# Altium schematic symbol library SamlibSCH.SchLib: 216 symbols (part 1 of 5)
Pins are listed as number, name and electrical type; pins without a type are passive.

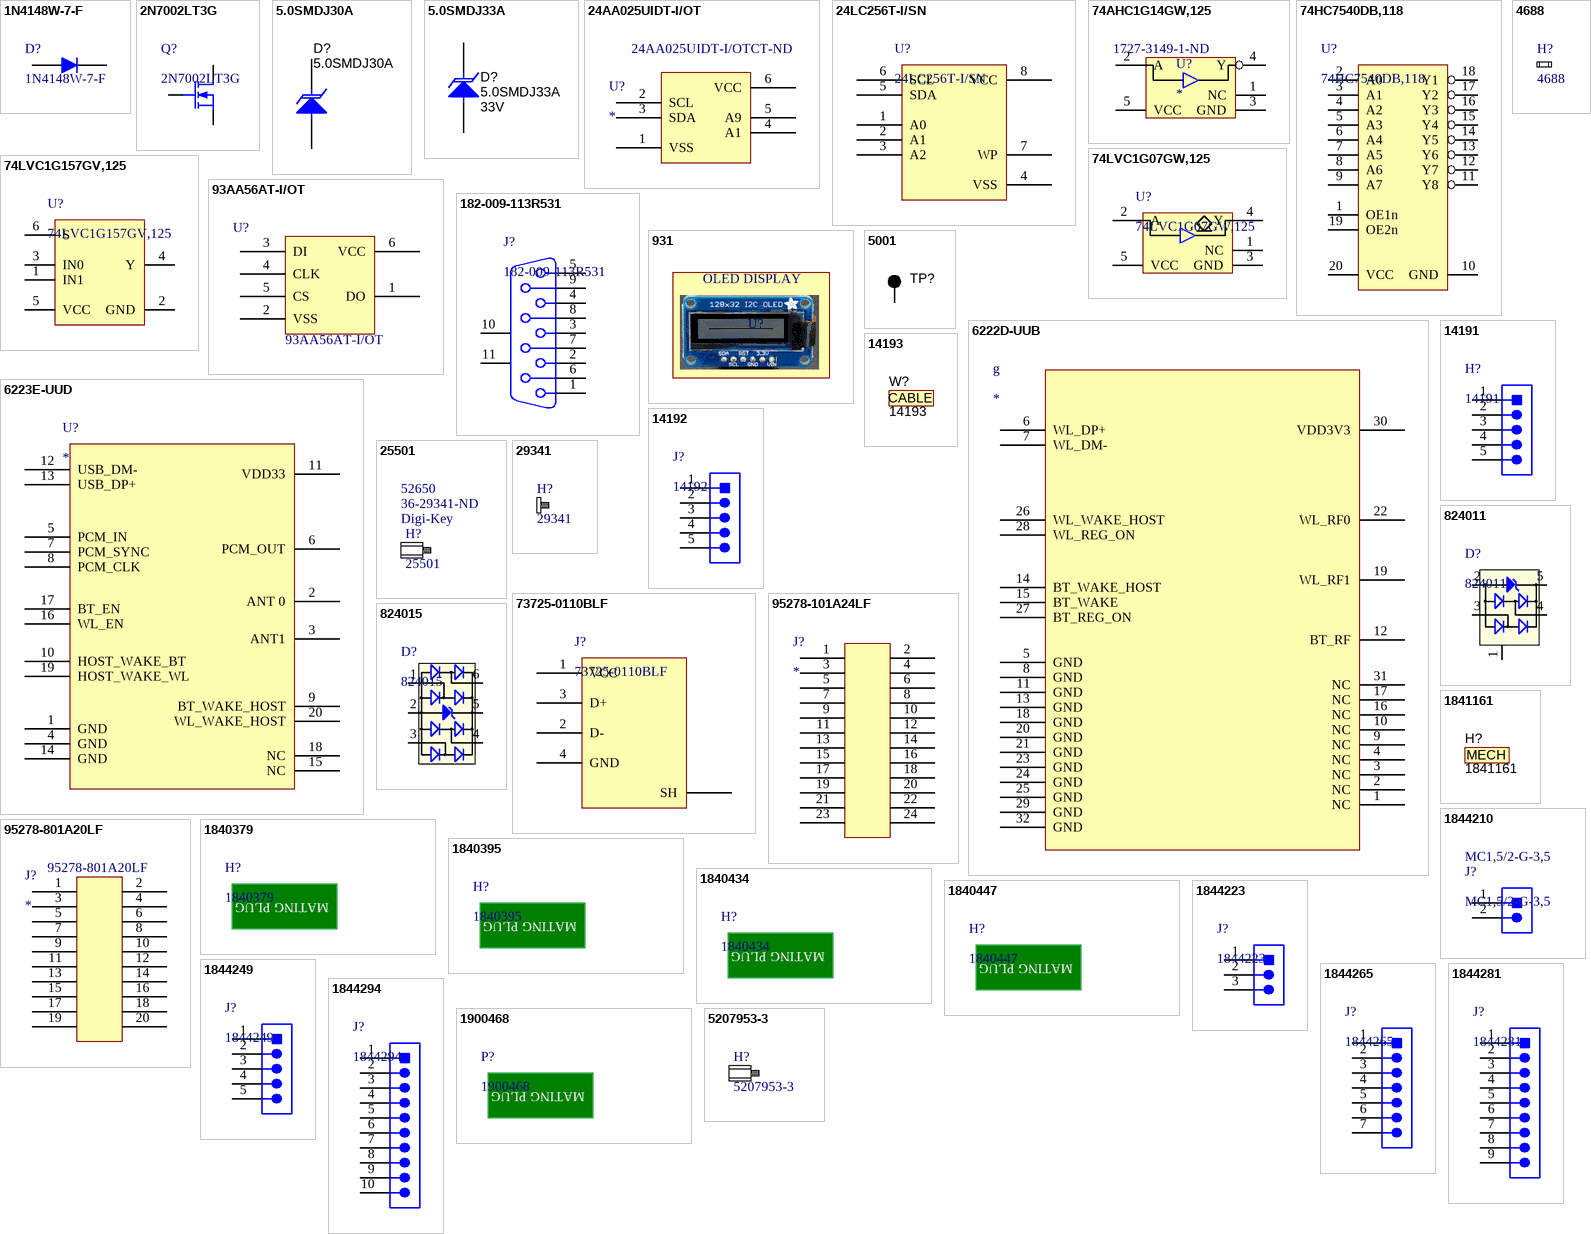
[diagram p0: symbols 1N4148W-7-F to 5207953-3]

## 1N4148W-7-F
designator D?
DIODE GEN PURP 100V 300MA SOD123; Manufacturer: Diodes Incorporated; Diode Type: Standard; Current - Average Rectified (Io): 300mA (DC); Voltage - Forward (Vf) (Max) @ If: 1.25V @ 150mA; Speed: Small Signal =< 200mA (Io), Any Speed; Reverse Recovery Time (trr): 4ns; Current - Reverse Leakage @ Vr: 1µA @ 75V; Capacitance @ Vr, F: 2pF @ 0V, 1MHz; Packaging: Cut Tape (CT); Voltage - DC Reverse (Vr) (Max): 100V; Mounting Type: Surface Mount; Package / Case: SOD-123; Supplier Device Package: SOD-123; Operating Temperature - Junction: -65°C ~ 150°C; ComponentLink1URL: http://www.diodes.com/_files/datasheets/ds30086.pdf; ComponentLink1Description: http://www.diodes.com/_files/datasheets/ds30086.pdf; Supplier 1: Digi-Key; Supplier Part Number 1: 1N4148W-FDICT-ND; Manufacturer Part Number: 1N4148W-7-F; RoHS: RoHS Compliant; Category: Discrete Semiconductor Products; Stock 1: 814473; Pricing: 1=0.16, 10=0.149, 100=0.0811, 500=0.04984, 1000=0.03399 (USD)
footprint SOD-123 (SOD-123, 2-Leads, Body 1.60x3.75mm, IPC Low Density)
pins: 1, 2

## 2N7002LT3G
designator Q?
MOSFET N-CH 60V 0.115A SOT-23; Manufacturer: ON Semiconductor; FET Type: MOSFET N-Channel, Metal Oxide; FET Feature: Standard; Current - Continuous Drain (Id) @ 25°C: 115mA (Tc); Rds On (Max) @ Id, Vgs: 7.5 Ohm @ 500mA, 10V; Vgs(th) (Max) @ Id: 2.5V @ 250µA; Input Capacitance (Ciss) @ Vds: 50pF @ 25V; Power - Max: 225mW; Configuration: Single; Forward Transconductance - Min: 0.00008 S; Transistor Polarity: N-Channel; Channel Mode: Enhancement; Id - Continuous Drain Current: 115 mA; Pd - Power Dissipation: 300 mW; Rds On - Drain-Source Resistance: 7.5 Ohms; Typical Turn-Off Delay Time: 40 ns; Typical Turn-On Delay Time: 20 ns; Vgs - Gate-Source Breakdown Voltage: 20 V; Supplier 1: Digi-Key; Manufacturer Part Number: 2N7002LT3G; RoHS: RoHS Compliant; Category: Discrete Semiconductor Products; Stock 1: 14958; Pricing 1: 1=0.14, 10=0.13, 100=0.0708, 500=0.04348, 1000=0.02966 (USD); Packaging: Cut Tape (CT); Drain to Source Voltage (Vdss): 60V; Gate Charge (Qg) @ Vgs: -; Mounting Type: Surface Mount; Package / Case: TO-236-3, SC-59, SOT-23-3; Supplier Device Package: SOT-23-3 (TO-236); ComponentLink1URL: http://www.onsemi.com/pub_link/Collateral/2N7002L-D.PDF; ComponentLink1Description: http://www.onsemi.com/pub_link/Collateral/2N7002L-D.PDF; Supplier 2: Mouser; Stock 2: 406939; Pricing 2: 1=0.224, 10=0.198, 100=0.069, 1000=0.048, 3000=0.035, 24000=0.027, 45000=0.024, 99000=0.021 (AUD); Series: 2N7002L; Brand: ON Semiconductor; Mounting Style: SMD/SMT; Maximum Operating Temperature: + 150 C; Minimum Operating Temperature: - 55 C; Product Category: MOSFETs- Power and Small Signal; Standard Pack Qty: 3000; Vds - Drain-Source Breakdown Voltage: 60 V; RoHS - Mouser: Y; Minimum Order Quantity: 1; Reeling: True; ComponentLink2URL: http://www.mouser.com/ds/2/308/2N7002L-D-105484.pdf; ComponentLink2Description: http://www.mouser.com/ds/2/308/2N7002L-D-105484.pdf; Supplier Part Number 1: 2N7002LT3GOSCT-ND; Supplier Part Number 2: 863-2N7002LT1G
footprint SOT23-3N (SOT23, 3-Leads, Body 2.9x1.3mm, Pitch 0.95mm, Lead Span 2.5mm, IPC Medium Density)
pins: 1 G, 2 S, 3 D

## 5.0SMDJ30A
designator D?
TVS DIODE 30VWM 48.4VC SMC; Manufacturer: Littelfuse Inc.; Type: Zener; Unidirectional Channels: 1; Voltage - Reverse Standoff (Typ): 30V; Voltage - Breakdown (Min): 33.3V; Voltage - Clamping (Max) @ Ipp: 48.4V; Current - Peak Pulse (10/1000µs): 103A; Power - Peak Pulse: 5000W (5kW); Power Line Protection: No; Packaging: Cut Tape (CT); Bidirectional Channels: -; Applications: General Purpose; Capacitance @ Frequency: -; Operating Temperature: -55°C ~ 150°C (TJ); Mounting Type: Surface Mount; Package / Case: DO-214AB, SMC; Supplier Device Package: DO-214AB (SMCJ); ComponentLink1URL: http://www.littelfuse.com/products/tvs-diodes/surface-mount/~/media/electronics/datasheets/tvs_diodes/littelfuse_tvs_diode_5_0smdj_datasheet.pdf.pdf; ComponentLink1Description: http://www.littelfuse.com/products/tvs-diodes/surface-mount/~/media/electronics/datasheets/tvs_diodes/littelfuse_tvs_diode_5_0smdj_datasheet.pdf.pdf; Supplier 1: Digi-Key; Supplier Part Number 1: F5635CT-ND; Manufacturer Part Number: 5.0SMDJ30A; RoHS: RoHS Compliant; Category: Circuit Protection; Stock: 15839; Pricing: 1=1.72, 10=1.549, 25=1.388, 100=1.2482, 250=1.10828, 500=0.9684, 1000=0.80162 (USD)
footprint SMC
pins: 1 K, 2 A

## 5.0SMDJ33A
designator D?  value 33V
TVS DIODE 33VWM 53.3VC SMD; Manufacturer: Littelfuse; U/M: EA; Power_W: 6.5; Vr_V: 33; Value1: 6.5W; RJA_CperW: 75; CompType: TVS; SymbolVersion: 2012-01-13; PartNumber: 5.0SMDJ33A; PackageReference: SMC; Vz_V: N/A; MountType: SMT; RoHS: Y; ComponentLink1Description: Datasheet link; ComponentLink1URL: http://www.littelfuse.com/data/en/Data_Sheets/Littelfuse_TVS-Diodes_5.0SMDJ.pdf; Published: 2008-10-08; Publisher: Texas Instruments; LatestRevisionDate: 2015-03-27; LatestRevisionNote: Updated Supplier Data; Supplier 1: Digi-Key; Supplier Part Number 1: F4119CT-ND; Supplier 2: Mouser; Supplier Part Number 2: 576-5.0SMDJ33A; Supplier 3: Farnell; Supplier Part Number 3: 1848908
footprint SMC
pins: 1 K, 2 A

## 24AA025UIDT-I/OT
designator U?  Supplier Part Number 1: 24AA025UIDT-I/OTCT-ND
IC EEPROM 2K I2C 400KHZ SOT23-6; Manufacturer: Microchip; Manufacturer Part Number: 24AA025UIDT-I/OT; Density: 2Kb; Interface: I2C,Serial,2-Wire; Access Time: 900ns; Max Supply Voltage: 5.5V; Number of Words: 256; Min Supply Voltage: 1.7V; Nominal Supply Current: 3mA; Supplier 1: Digi-Key; Stock 1: 16199; Pricing 1: 1=0.24000, 25=0.23360 (USD); RoHS: Yes; Case/Package: SOT-23; Number of Pins: 6; Contact Plating: Tin,Matte; Min Operating Temperature: -40°C; Max Operating Temperature: 85°C; Package Quantity: 3000; Frequency: 400kHz; Packaging: Tape and Reel; Memory Type: EEPROM; Memory Size: 2Kb; Max Frequency: 400kHz; Length: 3.1mm; Height: 1.3mm; Width: 1.8mm; Radiation Hardening: No; REACH SVHC: No SVHC; Lead Free: Lead Free; ComponentLink1URL: https://datasheet.ciiva.com/18618/20005202a-18618066.pdf?src-supplier=Digi-Key; ComponentLink1Description: https://datasheet.ciiva.com/18618/20005202a-18618066.pdf?src-supplier=Digi-Key; ComponentLink2URL: https://datasheet.ciiva.com/26889/getdatasheetpartid-762985-26889550.pdf?src-supplier=Verical; ComponentLink2Description: https://datasheet.ciiva.com/26889/getdatasheetpartid-762985-26889550.pdf?src-supplier=Verical; ComponentLink3URL: https://datasheet.ciiva.com/30478/0900766b8127fad0-30478080.pdf?src-supplier=RSComponents; ComponentLink3Description: https://datasheet.ciiva.com/30478/0900766b8127fad0-30478080.pdf?src-supplier=RSComponents; ComponentLink4URL: https://datasheet.ciiva.com/29614/filehandler-aspxddocname-en561510-29614490.pdf?src-supplier=Digi-Key; ComponentLink4Description: https://datasheet.ciiva.com/29614/filehandler-aspxddocname-en561510-29614490.pdf?src-supplier=Digi-Key; ComponentLink5URL: https://datasheet.ciiva.com/30017/20005202a-30017786.pdf?src-supplier=Avnet; ComponentLink5Description: https://datasheet.ciiva.com/30017/20005202a-30017786.pdf?src-supplier=Avnet; ComponentLink6URL: https://datasheet.ciiva.com/24021/21210n-24021899.pdf?src-supplier=Mouser; ComponentLink6Description: https://datasheet.ciiva.com/24021/21210n-24021899.pdf?src-supplier=Mouser; ComponentLink7URL: https://datasheet.ciiva.com/39123/13720005202a-39123374.pdf?src-supplier=Onlinecomponents.com; ComponentLink7Description: https://datasheet.ciiva.com/39123/13720005202a-39123374.pdf?src-supplier=Onlinecomponents.com; ComponentLink8URL: https://datasheet.ciiva.com/18709/24aa025uid-eng-tds-18709641.pdf?src-supplier=Distrelec; ComponentLink8Description: https://datasheet.ciiva.com/18709/24aa025uid-eng-tds-18709641.pdf?src-supplier=Distrelec; ComponentLink9URL: https://datasheet.ciiva.com/22692/1725196-22692203.pdf?src-supplier=Element14; ComponentLink9Description: https://datasheet.ciiva.com/22692/1725196-22692203.pdf?src-supplier=Element14
footprint SOT95P280X116-6L (SOT23, 6-Leads, Body 2.90x2.80mm, Pitch 0.95mm, IPC High Density)
pins: 1 VSS, 2 SCL, 3 SDA, 4 A1, 5 A9, 6 VCC

## 24LC256T-I/SN
designator U?
IC EEPROM 256KBIT 400KHZ 8SOIC; Manufacturer: Microchip Technology; Format - Memory: EEPROMs - Serial; Memory Size: 256K (32K x 8); Interface: I²C, 2-Wire Serial; Voltage - Supply: 2.5 V ~ 5.5 V; Packaging: Cut Tape (CT); Memory Type: EEPROM; Speed: 400kHz; Operating Temperature: -40°C ~ 85°C; Package / Case: 8-SOIC (0.154", 3.90mm Width); Supplier Device Package: 8-SOIC N; ComponentLink1URL: http://www.microchip.com/mymicrochip/filehandler.aspx?ddocname=en011849; ComponentLink1Description: http://www.microchip.com/mymicrochip/filehandler.aspx?ddocname=en011849; Supplier 1: Digi-Key; Supplier Part Number 1: 24LC256T-I/SNCT-ND; Manufacturer Part Number: 24LC256T-I/SN; RoHS: RoHS Compliant; Category: Integrated Circuits (ICs); Stock: 6354; Pricing: 1=0.76, 25=0.73, 100=0.7125 (USD)
footprint SOIC127P600X175-8N (SOIC, 8-Leads, Body 4.9x3.9mm (max), Pitch 1.27mm, IPC Medium Density)
pins: 1 A0, 2 A1, 3 A2, 4 VSS, 5 SDA, 6 SCL, 7 WP, 8 VCC

## 74AHC1G14GW,125
designator U?  Supplier Part Number: 1727-3149-1-ND
IC INVERTER SCHMITT 1CH 5TSSOP; Manufacturer: Nexperia; Manufacturer Part Number: 74AHC1G14GW,125; Supplier: Digi-Key; Stock 1: 11033; Pricing 1: 1=0.23000, 10=0.18700, 25=0.15680, 100=0.09930, 250=0.07664, 500=0.06532, 1000=0.04442 (USD); RoHS: No; ComponentLink1URL: http://www.farnell.com/datasheets/2014360.pdf?src-supplier=Farnell; ComponentLink1Description: http://www.farnell.com/datasheets/2014360.pdf?src-supplier=Farnell
footprint SOT353-1 (NXP SEMI) (SOT353-1, 5-Leads, Body 2.05x2.13mm, Pitch 0.65mm, IPC High Density)
pins: 1 NC, 2 A, 3 GND, 4 Y, 5 VCC

## 74HC7540DB,118
designator U?
IC SCHMT TRIG BUFF/DVR 8B 20SSOP; Manufacturer: NXP Semiconductors; Logic Type: Buffer/Line Driver, Inverting; Number of Elements: 1; Number of Bits per Element: 8; Current - Output High, Low: 7.8mA, 7.8mA; Voltage - Supply: 2 V ~ 6 V; Packaging: Cut Tape (CT); Operating Temperature: -40°C ~ 125°C; Mounting Type: Surface Mount; Package / Case: 20-SSOP (0.209", 5.30mm Width); Supplier Device Package: 20-SSOP; ComponentLink1URL: http://www.nxp.com/documents/data_sheet/74HC_HCT7540.pdf; ComponentLink1Description: http://www.nxp.com/documents/data_sheet/74HC_HCT7540.pdf; Supplier 1: Digi-Key; Supplier Part Number 1: 568-12178-1-ND; Manufacturer Part Number: 74HC7540DB,118; RoHS: RoHS Compliant; Category: Integrated Circuits (ICs); Stock: 4000; Pricing: 1=1.52, 10=1.357, 100=1.0577, 500=0.87474 (USD)
footprint SOP65P780X200-20L (SOP, 20-Leads, Body 7.20x5.30mm, Pitch 0.65mm, IPC High Density)
pins: 1 OE1n, 2 A0, 3 A1, 4 A2, 5 A3, 6 A4, 7 A5, 8 A6, 9 A7, 10 GND (power), 11 Y8, 12 Y7, 13 Y6, 14 Y5, 15 Y4, 16 Y3, 17 Y2, 18 Y1, 19 OE2n, 20 VCC (power)

## 74LVC1G07GW,125
designator U?
IC BUFF OPEN DRAIN N-INV 5TSSOP; Manufacturer: NXP Semiconductors; Logic Type: Buffer, Non-Inverting; Number of Elements: 1; Current - Output High, Low: -, 32mA; Voltage - Supply: 1.65 V ~ 5.5 V; Packaging: Cut Tape (CT); Number of Bits per Element: 1; Input Type: -; Output Type: Open Drain; Operating Temperature: -40°C ~ 125°C (TA); Mounting Type: Surface Mount; Package / Case: 5-TSSOP, SC-70-5, SOT-353; Supplier Device Package: 5-TSSOP; ComponentLink1URL: http://www.nxp.com/documents/data_sheet/74LVC1G07.pdf; ComponentLink1Description: http://www.nxp.com/documents/data_sheet/74LVC1G07.pdf; Supplier 1: Digi-Key; Supplier Part Number 1: 568-2295-1-ND; Manufacturer Part Number: 74LVC1G07GW,125; RoHS: RoHS Compliant; Category: Integrated Circuits (ICs); Stock 1: 24392; Pricing: 1=0.25, 10=0.205, 100=0.1086, 500=0.07142, 1000=0.04866 (USD)
footprint SOT353-1 (NXP SEMI) (SOT353-1, 5-Leads, Body 2.05x2.13mm, Pitch 0.65mm, IPC High Density)
pins: 1 NC, 2 A, 3 GND, 4 Y, 5 VCC

## 74LVC1G157GV,125
designator U?
IC MULTIPLEXER 2INPUT 6TSOP; Manufacturer: NXP Semiconductors; Circuit: 1 x 2:1; Independent Circuits: 1; Current - Output High, Low: 32mA, 32mA; Voltage Supply Source: Single Supply; Voltage - Supply: 1.65 V ~ 5.5 V; Packaging: Cut Tape (CT); Part Status: Active; Type: Multiplexer; Operating Temperature: -40°C ~ 125°C; Mounting Type: Surface Mount; Package / Case: SC-74, SOT-457; Supplier Device Package: 6-TSOP; ComponentLink1URL: http://www.nxp.com/documents/data_sheet/74LVC1G157.pdf; ComponentLink1Description: http://www.nxp.com/documents/data_sheet/74LVC1G157.pdf; Supplier 1: Digi-Key; Supplier Part Number 1: 568-3007-1-ND; Manufacturer Part Number: 74LVC1G157GV,125; RoHS: RoHS Compliant; Category: Integrated Circuits (ICs); Stock 1: 45352; Pricing: 1=0.36, 10=0.265, 100=0.1501, 500=0.0995, 1000=0.07631 (USD)
footprint SC-74 (SOT-457)
pins: 1 IN1, 2 GND (power), 3 IN0, 4 Y, 5 VCC (power), 6 S

## 93AA56AT-I/OT
designator U?  Manufacturer Part Number: 93AA56AT-I/OT  (hidden comment: *)
IC EEPROM 2K SPI 2MHZ SOT23-6; Manufacturer: Microchip; Min Supply Voltage: 1.8V; Max Supply Voltage: 5.5V; Access Time: 250ns; Nominal Supply Current: 2mA; Density: 2Kb; Interface: Serial; Supplier 1: Digi-Key; Supplier Part Number 1: 93AA56AT-I/OTCT-ND; Stock 1: 8487; Pricing 1: 1 = 0.23000, 25 = 0.21640, 100 = 0.21190 (USD); RoHS: Yes; Mount: Surface Mount; Case/Package: SOT-23; Number of Pins: 6; Contact Plating: Tin; Min Operating Temperature: -40°C; Max Operating Temperature: 85°C; Packaging: Tape and Reel; Package Quantity: 3000; Frequency: 2MHz; Memory Size: 2Kb; Memory Type: EEPROM; Termination: SMD/SMT; Max Frequency: 2MHz; Length: 3.1mm; Height: 1.3mm; Width: 1.8mm; Radiation Hardening: No; REACH SVHC: No SVHC; Lead Free: Lead Free; ComponentLink1URL: https://datasheet.ciiva.com/15123/getdatasheetpartid-789490-15123773.pdf?src-supplier=Verical; ComponentLink1Description: https://datasheet.ciiva.com/15123/getdatasheetpartid-789490-15123773.pdf?src-supplier=Verical; ComponentLink2URL: https://datasheet.ciiva.com/16621/jp013939-16621845.pdf?src-supplier=Avnet+Europe; ComponentLink2Description: https://datasheet.ciiva.com/16621/jp013939-16621845.pdf?src-supplier=Avnet+Europe; ComponentLink3URL: https://datasheet.ciiva.com/9280/21794g-9280762.pdf?src-supplier=Avnet; ComponentLink3Description: https://datasheet.ciiva.com/9280/21794g-9280762.pdf?src-supplier=Avnet; ComponentLink4URL: https://datasheet.ciiva.com/3187/21794g-3187373.pdf?src-supplier=Avnet; ComponentLink4Description: https://datasheet.ciiva.com/3187/21794g-3187373.pdf?src-supplier=Avnet; ComponentLink5URL: https://datasheet.ciiva.com/14134/93aa56a-eng-tds-14134765.pdf?src-supplier=Distrelec; ComponentLink5Description: https://datasheet.ciiva.com/14134/93aa56a-eng-tds-14134765.pdf?src-supplier=Distrelec; ComponentLink6URL: https://datasheet.ciiva.com/1155/1688094-1155759.pdf?src-supplier=Element14; ComponentLink6Description: https://datasheet.ciiva.com/1155/1688094-1155759.pdf?src-supplier=Element14; ComponentLink7URL: https://datasheet.ciiva.com/46410/1669363-46410991.pdf?src-supplier=Element14; ComponentLink7Description: https://datasheet.ciiva.com/46410/1669363-46410991.pdf?src-supplier=Element14
footprint SOT95P280X116-6L (SOT23, 6-Leads, Body 2.90x2.80mm, Pitch 0.95mm, IPC High Density)
pins: 1 DO, 2 VSS, 3 DI, 4 CLK, 5 CS, 6 VCC

## 182-009-113R531
designator J?
CONN D-SUB PLUG 9POS R/A SOLDER; Manufacturer: Norcomp Inc.; Connector Type: Plug, Male Pins; Number of Positions: 9; Flange Feature: Housing/Shell (4-40); Current Rating: 5A; Packaging: Tray; Connector Style: D-Sub; Number of Rows: 2; Shell Size, Connector Layout: 1 (DE, E); Contact Type: Signal; Mounting Type: Through Hole, Right Angle; Termination: Solder; Features: Board Lock, Grounding Indents; Shell Material, Finish: Steel, Nickel Plated; Contact Finish: Gold; Contact Finish Thickness: Flash; Ingress Protection: -; Operating Temperature: -55°C ~ 105°C; Voltage Rating: -; Housing Material: Polyamide (PA9T), Nylon 9T; Color: Black; ComponentLink1URL: http://www.norcomp.net/rohspdfs/Connectors/18Y/182/182-yyy-113Ryy1.pdf; ComponentLink1Description: http://www.norcomp.net/rohspdfs/Connectors/18Y/182/182-yyy-113Ryy1.pdf; Supplier 1: Digi-Key; Supplier Part Number 1: 182-09ME-ND; Manufacturer Part Number: 182-009-113R531; RoHS: RoHS Compliant; Category: Connectors, Interconnects; Stock: 5720; Pricing: 1=1.62, 10=1.47, 100=1.26, 500=1.05, 1000=0.9, 5000=0.798, 10000=0.78 (USD); Supplier 2: Farnell; Supplier Part Number 2: 2294285
footprint DSUB1.385-2H9 (Connector; D Subminiature; 9 Position; Right Angle; Pitch 1.385 mm)
pins: 1, 2, 3, 4, 5, 6, 7, 8, 9, 10 MH1, 11 MH2

## 931
designator U?  (mechanical)
DISPLAY MONOCHROME 128x32 I2C OLED; Manufacturer: *; Manufacturer Part Number: *
text: OLED DISPLAY

## 4688
designator H?  (mechanical)
HEX NUT 0.217" NYLON M3; Manufacturer: Keystone Electronics; Thread Size: M3x0.5; Type: Hex; Thickness: 0.089" (2.26mm); Width: 0.217" (5.51mm); Material: Nylon; Plating: -; Packaging: *; ComponentLink1URL: http://www.keyelco.com/product-pdf.cfm?p=2197; ComponentLink1Description: http://www.keyelco.com/product-pdf.cfm?p=2197; Supplier 1: Digi-Key; Supplier Part Number 1: 36-4688-ND; Manufacturer Part Number: 4688; RoHS: RoHS Compliant; Category: Hardware, Fasteners, Accessories; Stock 1: 20982; Pricing: 1=0.14, 10=0.13, 50=0.107, 100=0.0802, 250=0.06912, 500=0.06636, 1000=0.05807, 2500=0.05254, 5000=0.04977 (USD)

## 5001
designator TP?  (value not drawn)
TEST POINT PC MINI .040"D BLACK; Manufacturer: Keystone Electronics; Packaging: Bulk; Type: PC Test Point, Miniature; Terminal: 0.010" x 0.020" (0.25mm x 0.51mm) Phosphor Bronze Wire, Silver Plated; Mounting Type: 0.040" (1.02mm) Hole Diameter; Material: Base, Nylon 46, UL 94V-0; Color: Black; ComponentLink1URL: http://www.keyelco.com/product-pdf.cfm?p=1310; ComponentLink1Description: http://www.keyelco.com/product-pdf.cfm?p=1310; Supplier 1: Digi-Key; Supplier Part Number 1: 36-5001-ND; Manufacturer Part Number: 5001; RoHS: RoHS Compliant; Category: Test and Measurement; Stock: 443864; Pricing: 1=0.36, 10=0.327, 50=0.238, 100=0.2286, 250=0.20528, 500=0.19594, 1000=0.16328, 2500=0.14928, 5000=0.13995 (USD)
footprint Testpoint pad
pins: 1

## 6222D-UUB
designator g
RTL8822 WI-FI DUAL-BAND  2X2 11ac +BLUETOOTH 4.2; Manufacturer: FN-Link; Wifi Chip: RTL8822BU; Supplier: FN-Link; Price @ 5000: $5.50
footprint 6222D-UUB (FN-LINK B/T WIFI MODULE)
pins: 1 NC, 2 NC, 3 NC, 4 NC, 5 GND, 6 WL_DP+, 7 WL_DM-, 8 GND, 9 NC, 10 NC, 11 GND, 12 BT_RF, 13 GND, 14 BT_WAKE_HOST, 15 BT_WAKE, 16 NC, 17 NC, 18 GND, 19 WL_RF1, 20 GND, 21 GND, 22 WL_RF0, 23 GND, 24 GND, 25 GND, 26 WL_WAKE_HOST, 27 BT_REG_ON, 28 WL_REG_ON, 29 GND, 30 VDD3V3, 31 NC, 32 GND

## 6223E-UUD
designator U?
RTL8723 WI-FI DUAL-BAND  1X1 11ac +BLUETOOTH 4.2; Manufacturer: FN-Link; Wifi Chip: RTL8723DU; Supplier: FN-Link; Price @ 5000: $2.70
footprint 6223E-UUD (RTL8723 WI-FI DUAL-BAND  1X1 11ac +BLUETOOTH 4.2)
pins: 1 GND, 2 ANT 0, 3 ANT1, 4 GND, 5 PCM_IN, 6 PCM_OUT, 7 PCM_SYNC, 8 PCM_CLK, 9 BT_WAKE_HOST, 10 HOST_WAKE_BT, 11 VDD33, 12 USB_DM-, 13 USB_DP+, 14 GND, 15 NC, 16 WL_EN, 17 BT_EN, 18 NC, 19 HOST_WAKE_WL, 20 WL_WAKE_HOST

## 14191
designator H?
CONN HEADER STR 5POS PCB; Manufacturer: Bulgin; Connector Type: Header, Unshrouded; Number of Positions: 5; Number of Positions Loaded: All; Pitch: 0.100" (2.54mm); Packaging: Bulk; Contact Type: Male Pin; Number of Rows: 1; Row Spacing: -; Contact Mating Length: -; Mounting Type: Through Hole; Termination: Solder; Fastening Type: Friction Lock; Features: -; Contact Finish: Gold; Contact Finish Thickness: 30µin (0.76µm); Color: White; ComponentLink1URL: http://www.bulgin.co.uk/PDFs/Cat83_sections/Buccaneer-2010_USB.pdf; ComponentLink1Description: http://www.bulgin.co.uk/PDFs/Cat83_sections/Buccaneer-2010_USB.pdf; Supplier 1: Digi-Key; Supplier Part Number 1: 708-1028-ND; Manufacturer Part Number: 14191; RoHS: RoHS Compliant; Category: Connectors, Interconnects; Stock: 4929; Pricing: 1=0.35, 25=0.3, 50=0.2 (USD)
footprint CONN_BULGIN_14191 (CONN HEADER STR 5POST PCB (WIRE TO BOARD))
pins: 1, 2, 3, 4, 5

## 14192
designator J?
CONN HEADER RT ANG 5POS PCB; Manufacturer: Bulgin; Connector Type: Header, Unshrouded; Number of Positions: 5; Number of Positions Loaded: All; Pitch: 0.100" (2.54mm); Packaging: Bulk; Contact Type: Male Pin; Number of Rows: 1; Row Spacing: -; Contact Mating Length: -; Mounting Type: Through Hole, Right Angle; Termination: Solder; Fastening Type: Friction Lock; Features: -; Contact Finish: Gold; Contact Finish Thickness: 30µin (0.76µm); Color: White; ComponentLink1URL: http://www.bulgin.com/media/bulgin/data/Standard_USB.pdf; ComponentLink1Description: http://www.bulgin.com/media/bulgin/data/Standard_USB.pdf; Supplier 1: Digi-Key; Supplier Part Number 1: 708-1029-ND; Manufacturer Part Number: 14192; RoHS: RoHS Compliant; Category: Connectors, Interconnects; Stock: 959; Pricing: 1=0.4, 25=0.35, 50=0.3, 100=0.2238 (USD)
footprint CONN_BULGIN_14192 (CONN HEADER STR 5POST PCB RA (WIRE TO BOARD))
pins: 1, 2, 3, 4, 5

## 14193
designator W?  (mechanical)
CABLE USB A TO 5 WAY CRIMP 100MM; Manufacturer: Bulgin; Connector Type: Rectangular 5 pos Plug to USB A Male Plug; Cable Type: Round; Shielding: Shielded; Length: 0.33' (100.0mm); Color: Black; Usage: -; ComponentLink1URL: http://www.bulgin.com/media/bulgin/data/Standard_USB.pdf; ComponentLink1Description: http://www.bulgin.com/media/bulgin/data/Standard_USB.pdf; Supplier 1: Digi-Key; Supplier Part Number 1: 708-1026-ND; Manufacturer Part Number: 14193; RoHS: RoHS Compliant; Category: Cable Assemblies; Stock: 301; Pricing: 1=4.8, 25=4.3, 50=3.55, 100=3.25, 500=2.90002 (USD)
text: CABLE

## 25501
designator H?  Supplier 2: Digi-Key  Supplier Part Number 2: 36-29341-ND  Stock 2: 52650  (mechanical)
HEX STANDOFF M3 NYLON 10MM; Manufacturer: Keystone Electronics; Threaded/Unthreaded: Threaded; Gender: Male, Female; Between Board Height: 0.394" (10.00mm); Screw Head Type: Pan Head; Drive Type: Slotted; Thread Size: M3x0.5; Head Diameter: 0.213" (5.40mm); Head Height: 0.067" (1.70mm); Type: Hex Standoff; Screw, Thread Size: M3; Diameter - Inside: -; Diameter - Outside: 0.217" (5.50mm) Hex; Length - Overall: 0.709" (18.00mm); Features: -; Material: Nylon; Plating: -; Color: Natural; Weight: -; ComponentLink1URL: http://www.keyelco.com/product-pdf.cfm?p=4539; ComponentLink1Description: http://www.keyelco.com/product-pdf.cfm?p=4539; Supplier 1: Digi-Key; Supplier Part Number 1: 36-25501-ND; Manufacturer Part Number: 25501; RoHS: RoHS Compliant; Category: Hardware, Fasteners, Accessories; Stock 1: 3952; Pricing: 1=0.55, 10=0.412, 50=0.3294, 100=0.3157, 250=0.28824, 500=0.2745, 1000=0.2305, 2500=0.2059, 5000=0.19901 (USD); Length - Below Head: 0.236" (6.00mm); ComponentLink2URL: http://www.keyelco.com/product-pdf.cfm?p=4583; ComponentLink2Description: http://www.keyelco.com/product-pdf.cfm?p=4583

## 29341
designator H?  (mechanical)
MACHINE SCREW PAN SLOTTED M3; Manufacturer: Keystone Electronics; Screw Head Type: Pan Head; Thread Size: M3x0.5; Head Diameter: 0.213" (5.40mm); Head Height: 0.067" (1.70mm); Type: Machine Screw; Drive Type: Slotted; Features: -; Length - Below Head: 0.236" (6.00mm); Length - Overall: 0.303" (7.70mm); Material: Nylon; Plating: -; ComponentLink1URL: http://www.keyelco.com/product-pdf.cfm?p=4583; ComponentLink1Description: http://www.keyelco.com/product-pdf.cfm?p=4583; Supplier 1: Digi-Key; Supplier Part Number 1: 36-29341-ND; Manufacturer Part Number: 29341; RoHS: RoHS Compliant; Category: Hardware, Fasteners, Accessories; Stock 1: 52244; Pricing: 1=0.2, 10=0.187, 50=0.1394, 100=0.1295, 250=0.11456, 500=0.10956, 1000=0.08964, 2500=0.08217, 5000=0.07968 (USD)

## 73725-0110BLF
designator J?
CONN RCPT USB2.0 TYPEA 4POS R/A; Manufacturer: Amphenol FCI; Plating: Tin; Number of Contacts: 4; Connector Type: USB; Gender: Receptacle; Number of Ports: 1; Pitch: 2mm; Supplier 1: Digi-Key; Supplier Part Number 1: 609-1041-ND; Stock 1: 90641; Pricing 1: 1 = 0.890000, 10 = 0.779000, 30 = 0.733330, 60 = 0.702830, 120 = 0.672330, 270 = 0.611190, 510 = 0.550080, 1020 = 0.488960, 2520 = 0.443120 (USD); RoHS: Yes; Mount: Through Hole; Color: White; Housing Color: White; Housing Material: Thermoplastic; Contact Plating: GXT; Contact Material: Copper Alloy; Number of Terminals: 4; Min Operating Temperature: -40°C; Max Operating Temperature: 85°C; Package Quantity: 30; Termination: Solder; Packaging: Rail/Tube; Orientation: Right Angle; Number of Positions: 4; USB Standard: USB 2.0; Features: Shielded; Length: 5.76mm; Depth: 19.7mm; Width: 13.8mm; Flammability Rating: UL94 V-0; REACH SVHC: No SVHC; Lead Free: Lead Free; ComponentLink1URL: https://datasheet.ciiva.com/1099/73725-1099184.pdf?src-supplier=Element14; ComponentLink1Description: https://datasheet.ciiva.com/1099/73725-1099184.pdf?src-supplier=Element14; ComponentLink2URL: https://datasheet.ciiva.com/4598/73725-222585-4598842.pdf?src-supplier=Mouser; ComponentLink2Description: https://datasheet.ciiva.com/4598/73725-222585-4598842.pdf?src-supplier=Mouser; ComponentLink3URL: https://datasheet.ciiva.com/3094/73725-3094435.pdf?src-supplier=Avnet; ComponentLink3Description: https://datasheet.ciiva.com/3094/73725-3094435.pdf?src-supplier=Avnet; ComponentLink4URL: https://datasheet.ciiva.com/1099/73725-1099185.pdf?src-supplier=Element14; ComponentLink4Description: https://datasheet.ciiva.com/1099/73725-1099185.pdf?src-supplier=Element14; ComponentLink5URL: https://datasheet.ciiva.com/851/73725-851209.pdf?src-supplier=Digi-Key; ComponentLink5Description: https://datasheet.ciiva.com/851/73725-851209.pdf?src-supplier=Digi-Key; Manufacturer Part Number: 73725-0110BLF
footprint 73725-0110BLF (CONN RCPT USB2.0 TYPEA 4POS R/A)
pins: 1 VCC (power), 2 D-, 3 D+, 4 GND (power), 5 SH, 6 SH, 7 SH, 8 SH

## 95278-101A24LF
designator J?
CONN HEADER SMD 24POS 2.54MM; Manufacturer: Amphenol FCI; Manufacturer Part Number: 95278-101A24LF; Current Rating: 3A; Voltage Rating: 1.5kV; Number of Positions: 24; Insulation Resistance: 5GR; Gender: Male; Connector Type: Male Pin; Row Spacing: 0.1inch; Supplier 1: Digi-Key; Supplier Part Number 1: 95278-101A24LF-ND; Supplier 2: Mouser; Supplier Part Number 2: 649-95278-101A24LF; Stock 2: 0; Pricing 2: 1 = 1.58000, 10 = 1.29000, 50 = 1.29000, 100 = 1.24000, 300 = 1.12000, 600 = 1.03000, 900 = 0.87900, 1000 = 0.87900, 2400 = 0.82100, 4800 = 0.78000, 9900 = 0.76200, 10000 = 0.76200 (USD); RoHS: Yes; Mount: Surface Mount; Contact Plating: Gold; Contact Material: Bronze; Color: Black; Housing Color: Black; Housing Material: Thermoplastic; Min Operating Temperature: -65°C; Max Operating Temperature: 125°C; Number of Rows: 2; Contact Gender: Male; Packaging: Tape and Reel; Package Quantity: 300; Termination: Solder; Max Voltage Rating (AC): 1.5kV; Number of Contacts: 24; Orientation: Straight; Length: 30.48mm; Pitch: 2.54mm; Contact Mating Length: 0.232inch; Depth: 4.83mm; Lead Free: Lead Free; Flammability Rating: UL94 V-0; ComponentLink1URL: https://datasheet.ciiva.com/16730/95278-16730392.pdf?src-supplier=Avnet+Europe; ComponentLink1Description: https://datasheet.ciiva.com/16730/95278-16730392.pdf?src-supplier=Avnet+Europe; ComponentLink2URL: https://datasheet.ciiva.com/720/95278-720954.pdf?src-supplier=Digi-Key; ComponentLink2Description: https://datasheet.ciiva.com/720/95278-720954.pdf?src-supplier=Digi-Key; ComponentLink3URL: https://datasheet.ciiva.com/10124/95278-10124300.pdf?src-supplier=Avnet; ComponentLink3Description: https://datasheet.ciiva.com/10124/95278-10124300.pdf?src-supplier=Avnet
footprint 95278-101A24LF (CONN HEADER SMD 24POS 2.54MM)
pins: 1, 2, 3, 4, 5, 6, 7, 8, 9, 10, 11, 12, 13, 14, 15, 16, 17, 18, 19, 20, 21, 22, 23, 24

## 95278-801A20LF
designator J?  Manufacturer Part Number: 95278-801A20LF
CONN HEADER SMD 20POS 2.54MM; Manufacturer: Amphenol FCI; Current Rating: 3A; Voltage Rating: 1.5kV; Number of Positions: 20; Insulation Resistance: 5GR; Gender: Male; Connector Type: Male Pin; Row Spacing: 0.1inch; Supplier 1: Digi-Key; Supplier Part Number 1: 609-6477-1-ND; Stock 1: 948; Pricing 1: 1 = 1.38000, 10 = 1.25200, 100 = 1.07320 (USD); RoHS: Yes; Mount: Surface Mount; Contact Plating: Gold; Contact Material: Bronze; Color: Black; Housing Color: Black; Housing Material: Thermoplastic; Min Operating Temperature: -65°C; Max Operating Temperature: 125°C; Packaging: Tape and Reel; Number of Rows: 2; Package Quantity: 300; Contact Gender: Male; Termination: Solder; Number of Contacts: 20; Max Voltage Rating (AC): 1.5kV; Orientation: Straight; Length: 25.4mm; Pitch: 2.54mm; Contact Mating Length: 0.232inch; Depth: 4.83mm; Flammability Rating: UL94 V-0; ComponentLink1URL: https://datasheet.ciiva.com/724/95278-724975.pdf?src-supplier=Digi-Key; ComponentLink1Description: https://datasheet.ciiva.com/724/95278-724975.pdf?src-supplier=Digi-Key; ComponentLink2URL: https://datasheet.ciiva.com/16730/95278-16730716.pdf?src-supplier=Avnet+Europe; ComponentLink2Description: https://datasheet.ciiva.com/16730/95278-16730716.pdf?src-supplier=Avnet+Europe
footprint 95278-801A20LF (CONN HEADER SMD 20POS 2.54MM)
pins: 1, 2, 3, 4, 5, 6, 7, 8, 9, 10, 11, 12, 13, 14, 15, 16, 17, 18, 19, 20

## 824011
designator D?
TVS DIODE 5VWM 8.5VC SOT23; Manufacturer: Wurth Electronics Inc; Type: Steering (Rail to Rail); Bidirectional Channels: 2; Voltage - Reverse Standoff (Typ): 5V (Max); Voltage - Breakdown (Min): 6.1V; Voltage - Clamping (Max) @ Ipp: 8.5V; Current - Peak Pulse (10/1000µs): 12A (8/20µs); Power Line Protection: Yes; Packaging: Cut Tape (CT); Unidirectional Channels: -; Power - Peak Pulse: -; Applications: General Purpose; Capacitance @ Frequency: -; Operating Temperature: -55°C ~ 125°C (TJ); Mounting Type: Surface Mount; Package / Case: SC-74A, SOT-753; Supplier Device Package: SOT-23-5L; ComponentLink1URL: http://katalog.we-online.de/pbs/datasheet/824011.pdf; ComponentLink1Description: http://katalog.we-online.de/pbs/datasheet/824011.pdf; Supplier 1: Digi-Key; Supplier Part Number 1: 732-4465-1-ND; Manufacturer Part Number: 824011; RoHS: RoHS Compliant; Category: Circuit Protection; Stock: 1661; Pricing: 1=0.96, 10=0.9, 50=0.84, 100=0.78, 500=0.69 (USD); Supplier 2: Mouser; Supplier Part Number 2: 710-824011
footprint SOT23_5L (SOT23_5L, 5-Leads, Body 3.60x2.9mm, Pitch 0.95mm)
pins: 1 NC, 2 GND, 3 I/O1, 4 I/O2, 5 VDD

## 824015
designator D?
TVS DIODE 5VWM 8.2VC SOT23; Manufacturer: Wurth Electronics Inc; Type: Steering (Rail to Rail); Bidirectional Channels: 4; Voltage - Reverse Standoff (Typ): 5V (Max); Voltage - Breakdown (Min): 6V; Voltage - Clamping (Max) @ Ipp: 8.2V (Typ); Current - Peak Pulse (10/1000µs): 4A (8/20µs); Power Line Protection: Yes; Packaging: Cut Tape (CT); Unidirectional Channels: -; Power - Peak Pulse: -; Applications: Ethernet; Capacitance @ Frequency: -; Operating Temperature: -55°C ~ 125°C (TJ); Mounting Type: Surface Mount; Package / Case: SOT-23-6; Supplier Device Package: SOT-23-6L; ComponentLink1URL: http://katalog.we-online.de/pbs/datasheet/824015.pdf; ComponentLink1Description: http://katalog.we-online.de/pbs/datasheet/824015.pdf; Supplier 1: Digi-Key; Supplier Part Number 1: 732-4467-1-ND; Manufacturer Part Number: 824015; RoHS: RoHS Compliant; Category: Circuit Protection; Stock: 7916; Pricing: 1=0.96, 10=0.9, 50=0.84, 100=0.78, 500=0.69 (USD)
footprint SOT95P280X116-6L (SOT23, 6-Leads, Body 2.90x2.80mm, Pitch 0.95mm, IPC High Density)
pins: 1 I/O1, 2 GND, 3 I/O2, 4 I/O3, 5 VDD, 6 I/O4

## 1840379
designator H?  (mechanical)
TERM BLOCK PLUG 3POS STR 3.5MM; Manufacturer: Phoenix Contact; Number of Positions: 3; Number of Levels: 1; Pitch: 0.138" (3.50mm); Plug Wire Entry: 180°; Current - IEC: 8A; Voltage - IEC: 320V; Voltage - UL: 300V; Wire Gauge or Range - AWG: 14-30 AWG; Wire Gauge or Range - mm²: 0.14-1.5mm²; Packaging: Bulk; Type: Plug, Female Sockets; Positions Per Level: 3; Header Orientation: -; Termination Style: Screw - Clamping Yoke (Tension Sleeve); Mounting Type: Free Hanging (In-Line); Current - UL: 8A; Color: Green; Operating Temperature: -; Contact Mating Finish: Tin; Features: -; ComponentLink1URL: http://media.digikey.com/pdf/Data%20Sheets/Phoenix%20Contact%20PDFs/1840379.pdf; ComponentLink1Description: http://media.digikey.com/pdf/Data%20Sheets/Phoenix%20Contact%20PDFs/1840379.pdf; Supplier 1: Digi-Key; Supplier Part Number 1: 277-2413-ND; Manufacturer Part Number: 1840379; RoHS: RoHS Compliant; Category: Connectors, Interconnects; Stock: 5856; Pricing: 1=3.18, 10=3.092, 50=2.89, 100=2.6588, 250=2.45648, 500=2.3409, 1000=2.1964 (USD)
text: MATING PLUG

## 1840395
designator H?  (mechanical)
TERM BLOCK PLUG 5POS STR 3.5MM; Manufacturer: Phoenix Contact; Number of Positions: 5; Number of Levels: 1; Pitch: 0.138" (3.50mm); Plug Wire Entry: 180°; Current - IEC: 8A; Voltage - IEC: 320V; Voltage - UL: 300V; Wire Gauge or Range - AWG: 14-30 AWG; Wire Gauge or Range - mm²: 0.14-1.5mm²; Packaging: Bulk; Type: Plug, Female Sockets; Positions Per Level: 5; Header Orientation: -; Termination Style: Screw - Clamping Yoke (Tension Sleeve); Mounting Type: Free Hanging (In-Line); Current - UL: 8A; Color: Green; Operating Temperature: -; Contact Mating Finish: Tin; Features: -; ComponentLink1URL: http://media.digikey.com/pdf/Data%20Sheets/Phoenix%20Contact%20PDFs/1840395.pdf; ComponentLink1Description: http://media.digikey.com/pdf/Data%20Sheets/Phoenix%20Contact%20PDFs/1840395.pdf; Supplier 1: Digi-Key; Supplier Part Number 1: 277-5721-ND; Manufacturer Part Number: 1840395; RoHS: RoHS Compliant; Category: Connectors, Interconnects; Stock: 1141; Pricing: 1=5.31, 10=5.168, 50=4.83, 100=4.4436, 250=4.10548, 500=3.9123, 1000=3.6708 (USD)
text: MATING PLUG

## 1840434
designator H?  (mechanical)
TERM BLOCK PLUG 9POS STR 3.5MM; Manufacturer: Phoenix Contact; Number of Positions: 9; Number of Levels: 1; Pitch: 0.138" (3.50mm); Plug Wire Entry: 180°; Current - IEC: 8A; Voltage - IEC: 320V; Voltage - UL: 300V; Wire Gauge or Range - AWG: 14-30 AWG; Wire Gauge or Range - mm²: 0.14-1.5mm²; Packaging: Bulk; Type: Plug, Female Sockets; Positions Per Level: 9; Header Orientation: -; Termination Style: Screw - Clamping Yoke (Tension Sleeve); Mounting Type: Free Hanging (In-Line); Current - UL: 8A; Color: Green; Operating Temperature: -; Contact Mating Finish: Tin; Features: -; ComponentLink1URL: http://media.digikey.com/pdf/Data%20Sheets/Phoenix%20Contact%20PDFs/1840434.pdf; ComponentLink1Description: http://media.digikey.com/pdf/Data%20Sheets/Phoenix%20Contact%20PDFs/1840434.pdf; Supplier 1: Digi-Key; Supplier Part Number 1: 277-5747-ND; Manufacturer Part Number: 1840434; RoHS: RoHS Compliant; Category: Connectors, Interconnects; Stock: 172; Pricing: 1=9.77, 10=9.506, 50=8.8842, 100=8.1735, 250=7.55156, 500=7.1962, 1000=6.61961 (USD)
text: MATING PLUG

## 1840447
designator H?  (mechanical)
TERM BLOCK PLUG 10POS STR 3.5MM; Manufacturer: Phoenix Contact; Number of Positions: 10; Number of Levels: 1; Pitch: 0.138" (3.50mm); Plug Wire Entry: 180°; Current - IEC: 8A; Voltage - IEC: 320V; Voltage - UL: 300V; Wire Gauge or Range - AWG: 14-30 AWG; Wire Gauge or Range - mm²: 0.14-1.5mm²; Packaging: Bulk; Type: Plug, Female Sockets; Positions Per Level: 10; Header Orientation: -; Termination Style: Screw - Clamping Yoke (Tension Sleeve); Mounting Type: Free Hanging (In-Line); Current - UL: 8A; Color: Green; Operating Temperature: -; Contact Mating Finish: Tin; Features: -; ComponentLink1URL: http://media.digikey.com/pdf/Data%20Sheets/Phoenix%20Contact%20PDFs/1840447.pdf; ComponentLink1Description: http://media.digikey.com/pdf/Data%20Sheets/Phoenix%20Contact%20PDFs/1840447.pdf; Supplier 1: Digi-Key; Supplier Part Number 1: 277-5730-ND; Manufacturer Part Number: 1840447; RoHS: RoHS Compliant; Category: Connectors, Interconnects; Stock: 342; Pricing: 1=10.88, 10=10.587, 50=9.894, 100=9.1025, 250=8.40988, 500=8.01414, 1000=7.37201 (USD)
text: MATING PLUG

## 1841161
designator H?  (mechanical)
FIBER OPTICS 10POS TRANSPARENT; Manufacturer: Phoenix Contact; Number of Positions: 10; For Use With/Related Products: COMBICON MC Headers; Type: Light Pipe; Color: Clear; Supplier 1: Digi-Key; Supplier Part Number 1: 277-8876-ND; Manufacturer Part Number: 1841161; RoHS: RoHS Compliant; Category: Connectors, Interconnects; Stock: 16; Pricing: 1=3.85, 10=3.743, 50=3.4986, 100=3.2187, 250=2.9738, 500=2.83386, 1000=2.6068 (USD)
text: MECH

## 1844210
designator J?, comment MC1,5/2-G-3,5
TERM BLOCK HDR 2POS R/A 3.5MM; Manufacturer: Phoenix Contact; Current Rating: 8A; Voltage Rating: 160V; Number of Positions: 2; Number of Levels: 1; Voltage: 300V; Gender: Male; Connector Type: Plug; Voltage Rating (DC): 250V; Approvals: UL; ComponentLink1Description: https://www.digikey.com/product-detail/en/phoenix-contact/1844210/277-2416-ND/349195; ComponentLink1URL: https://www.digikey.com/product-detail/en/phoenix-contact/1844210/277-2416-ND/349195; Supplier 1: Digi-Key; Supplier Part Number 1: 277-2416-ND; Stock 1: 2080; Pricing 1: 1 = 0.93000, 10 = 0.89400, 50 = 0.85480, 100 = 0.83140, 250 = 0.77700, 500 = 0.71484, 1000 = 0.66045, 2500 = 0.62937, 5000 = 0.59052 (USD); RoHS: Yes; Mount: Through Hole; Weight: 4oz; Color: Green; Contact Plating: Tin; Housing Color: Green; Material: PBT; Housing Material: Polybutylene; Contact Material: Tin; Number of Rows: 1; Package Quantity: 50; Packaging: Bulk; Termination: Solder; Number of Positions Per Level: 2; Current: 8A; Number of Contacts: 2; Orientation: Right Angle; Max Current Rating: 8A; Number of Poles: 2; Length: 8.4mm; Height: 9.2mm; Pitch: 3.5mm; Depth: 9.2mm; Width: 10.65mm; Lead Free: Lead Free; Flammability Rating: UL94 V-0; ComponentLink2URL: https://datasheet.ciiva.com/16097/1844210-16097201.pdf?src-supplier=Onlinecomponents.com; ComponentLink2Description: https://datasheet.ciiva.com/16097/1844210-16097201.pdf?src-supplier=Onlinecomponents.com; ComponentLink3URL: https://datasheet.ciiva.com/15197/getdatasheetpartid-198289-15197572.pdf?src-supplier=Verical; ComponentLink3Description: https://datasheet.ciiva.com/15197/getdatasheetpartid-198289-15197572.pdf?src-supplier=Verical; ComponentLink4URL: https://datasheet.ciiva.com/815/1844210-815897.pdf?src-supplier=Digi-Key; ComponentLink4Description: https://datasheet.ciiva.com/815/1844210-815897.pdf?src-supplier=Digi-Key; ComponentLink5URL: https://datasheet.ciiva.com/29211/740374-da-01-de-leiterplattenstecker-mc-1-5-2-g-3-5-29211985.pdf?src-supplier=Conrad; ComponentLink5Description: https://datasheet.ciiva.com/29211/740374-da-01-de-leiterplattenstecker-mc-1-5-2-g-3-5-29211985.pdf?src-supplier=Conrad; ComponentLink6URL: https://datasheet.ciiva.com/16939/70054518-16939959.pdf?src-supplier=Allied+Electronics; ComponentLink6Description: https://datasheet.ciiva.com/16939/70054518-16939959.pdf?src-supplier=Allied+Electronics; Manufacturer Part Number: MC1,5/2-G-3,5
footprint Phoenix_1844210 (TH, 2-Leads, Body 9.2x18.9, Pitch 3.5mm)
pins: 1, 2

## 1844223
designator J?
TERM BLOCK HDR 3POS R/A 3.5MM; Manufacturer: Phoenix Contact; Number of Positions: 3; Number of Levels: 1; Pitch: 0.138" (3.50mm); Header Orientation: 90°, Right Angle; Current - IEC: 12A; Voltage - IEC: 250V; Current - UL: 8A; Voltage - UL: 300V; Packaging: Bulk; Type: Header, Male Pins, Shrouded (4 Side); Positions Per Level: 3; Plug Wire Entry: -; Termination Style: Solder; Mounting Type: Through Hole; Wire Gauge or Range - AWG: -; Wire Gauge or Range - mm²: -; Color: Green; Operating Temperature: -; Contact Mating Finish: Tin; Features: -; ComponentLink1URL: http://media.digikey.com/pdf/Data%20Sheets/Phoenix%20Contact%20PDFs/1844223.pdf; ComponentLink1Description: http://media.digikey.com/pdf/Data%20Sheets/Phoenix%20Contact%20PDFs/1844223.pdf; Supplier 1: Digi-Key; Supplier Part Number 1: 277-2415-ND; Manufacturer Part Number: 1844223; RoHS: RoHS Compliant; Category: Connectors, Interconnects; Stock: 12513; Pricing: 1=1.25, 10=1.196, 50=1.1444, 100=1.1132, 250=1.0404, 500=0.95716, 1000=0.867, 2500=0.8262, 5000=0.7752 (USD)
footprint Phoenix_1844223 (TH, 5-Leads, Body 9.2x18.9, Pitch 3.5mm)
pins: 1, 2, 3

## 1844249
designator J?
TERM BLOCK HDR 5POS R/A 3.5MM; Manufacturer: Phoenix Contact; Number of Positions: 5; Number of Levels: 1; Pitch: 0.138" (3.50mm); Header Orientation: 90°, Right Angle; Current - IEC: 12A; Voltage - IEC: 250V; Current - UL: 8A; Voltage - UL: 300V; Packaging: Bulk; Type: Header, Male Pins, Shrouded (4 Side); Positions Per Level: 5; Plug Wire Entry: -; Termination Style: Solder; Mounting Type: Through Hole; Wire Gauge or Range - AWG: -; Wire Gauge or Range - mm²: -; Color: Green; Operating Temperature: -; Contact Mating Finish: Tin; Features: -; Supplier 1: Digi-Key; Supplier Part Number 1: 277-5789-ND; Manufacturer Part Number: 1844249; RoHS: RoHS Compliant; Category: Connectors, Interconnects; Stock: 2625; Pricing: 1=2.07, 10=1.982, 50=1.8962, 100=1.8445, 250=1.7238, 500=1.5859, 1000=1.4365, 2500=1.3689, 5000=1.2844 (USD)
footprint Phoenix_1844249 (TH, 5-Leads, Body 9.2x18.9, Pitch 3.5mm)
pins: 1, 2, 3, 4, 5

## 1844265
designator J?
TERM BLOCK HDR 7POS R/A 3.5MM; Manufacturer: Phoenix Contact; Number of Positions: 7; Number of Levels: 1; Pitch: 0.138" (3.50mm); Header Orientation: 90°, Right Angle; Current - IEC: 12A; Voltage - IEC: 250V; Current - UL: 8A; Voltage - UL: 300V; Packaging: Bulk; Type: Header, Male Pins, Shrouded (4 Side); Positions Per Level: 7; Plug Wire Entry: -; Termination Style: Solder; Mounting Type: Through Hole; Wire Gauge or Range - AWG: -; Wire Gauge or Range - mm²: -; Color: Green; Operating Temperature: -; Contact Mating Finish: Tin; Features: -; Supplier 1: Digi-Key; Supplier Part Number 1: 277-5892-ND; Manufacturer Part Number: 1844265; RoHS: RoHS Compliant; Category: Connectors, Interconnects; Stock: 1415; Pricing: 1=2.73, 10=2.607, 50=2.5358, 100=2.37, 250=2.1804, 500=2.0145, 1000=1.9197, 2500=1.8012 (USD)
footprint Phoenix_1844265 (TH, 7-Leads, Body 9.2x25.9, Pitch 3.5mm)
pins: 1, 2, 3, 4, 5, 6, 7

## 1844281
designator J?
TERM BLOCK HDR 9POS R/A 3.5MM; Manufacturer: Phoenix Contact; Number of Positions: 9; Number of Levels: 1; Pitch: 0.138" (3.50mm); Header Orientation: 90°, Right Angle; Current - IEC: 12A; Voltage - IEC: 250V; Current - UL: 8A; Voltage - UL: 300V; Packaging: Bulk; Type: Header, Male Pins, Shrouded (4 Side); Positions Per Level: 9; Plug Wire Entry: -; Termination Style: Solder; Mounting Type: Through Hole; Wire Gauge or Range - AWG: -; Wire Gauge or Range - mm²: -; Color: Green; Operating Temperature: -; Contact Mating Finish: Tin; Features: -; ComponentLink1URL: http://media.digikey.com/pdf/Data%20Sheets/Phoenix%20Contact%20PDFs/1844281.pdf; ComponentLink1Description: http://media.digikey.com/pdf/Data%20Sheets/Phoenix%20Contact%20PDFs/1844281.pdf; Supplier 1: Digi-Key; Supplier Part Number 1: 277-5944-ND; Manufacturer Part Number: 1844281; RoHS: RoHS Compliant; Category: Connectors, Interconnects; Stock: 212; Pricing: 1=3.52, 10=3.366, 50=3.2742, 100=3.06, 250=2.8152, 500=2.601, 1000=2.4786, 2500=2.3256 (USD); Supplier 2: Mouser; Supplier Part Number 2: 651-1844281
footprint Phoenix_1844281 (TH, 9-Leads, Body 9.2x32.9, Pitch 3.5mm)
pins: 1, 2, 3, 4, 5, 6, 7, 8, 9

## 1844294
designator J?
TERM BLOCK HDR 10POS R/A 3.5MM; Manufacturer: Phoenix Contact; Number of Positions: 10; Number of Levels: 1; Pitch: 0.138" (3.50mm); Header Orientation: 90°, Right Angle; Current - IEC: 12A; Voltage - IEC: 250V; Current - UL: 8A; Voltage - UL: 300V; Packaging: Bulk; Type: Header, Male Pins, Shrouded (4 Side); Positions Per Level: 10; Plug Wire Entry: -; Termination Style: Solder; Mounting Type: Through Hole; Wire Gauge or Range - AWG: -; Wire Gauge or Range - mm²: -; Color: Green; Operating Temperature: -; Contact Mating Finish: Tin; Features: -; ComponentLink1URL: http://media.digikey.com/pdf/Data%20Sheets/Phoenix%20Contact%20PDFs/1844294.pdf; ComponentLink1Description: http://media.digikey.com/pdf/Data%20Sheets/Phoenix%20Contact%20PDFs/1844294.pdf; Supplier 1: Digi-Key; Supplier Part Number 1: 277-5813-ND; Manufacturer Part Number: 1844294; RoHS: RoHS Compliant; Category: Connectors, Interconnects; Stock: 395; Pricing: 1=3.93, 10=3.762, 50=3.6594, 100=3.42, 250=3.1464, 500=2.907, 1000=2.77021, 2500=2.5992 (USD)
footprint Phoenix_1844294 (TH, 10-Leads, Body 9.2x35.9, Pitch 3.5mm)
pins: 1, 2, 3, 4, 5, 6, 7, 8, 9, 10

## 1900468
designator P?  (mechanical)
TERM BLOCK PLUG 2POS STR 3.5MM; Manufacturer: Phoenix Contact; Current Rating: 8A; Voltage Rating: 160V; Number of Positions: 2; Number of Levels: 1; Voltage: 300V; Connector Type: Screw,Socket; Pitch: 0.138inch; Wire Gauge (Max): 16AWG; Wire Gauge (Min): 28AWG; ComponentLink1URL: http://media.digikey.com/pdf/Data%20Sheets/Phoenix%20Contact%20PDFs/1840379.pdf; ComponentLink1Description: http://media.digikey.com/pdf/Data%20Sheets/Phoenix%20Contact%20PDFs/1840379.pdf; Supplier 1: Digi-Key; Stock 1: 18; Pricing 1: 1=2.56000, 10=2.49400, 50=2.33100, 100=2.14450, 250=1.98136, 500=1.88812, 1000=1.77156 (USD); RoHS: Yes; Mount: Free Hanging; Contact Plating: Tin; Color: Green; Contact Material: Tin; Packaging: Bulk; Package Quantity: 1; Termination: Screw; Number of Positions Per Level: 2; Current: 8A; Number of Rows: 1; Length: 7mm; Height: 11.1mm; Width: 16.1mm; Lead Free: Lead Free; ComponentLink2URL: https://datasheet.ciiva.com/15170/getdatasheetpartid-258177-15170082.pdf?src-supplier=Verical; ComponentLink2Description: https://datasheet.ciiva.com/15170/getdatasheetpartid-258177-15170082.pdf?src-supplier=Verical; ComponentLink3URL: https://datasheet.ciiva.com/29225/772341-da-01-en-steckerteil-1900468-50-st-29225287.pdf?src-supplier=Conrad; ComponentLink3Description: https://datasheet.ciiva.com/29225/772341-da-01-en-steckerteil-1900468-50-st-29225287.pdf?src-supplier=Conrad; Supplier Part Number 1: 277-9008-ND; Manufacturer Part Number: 1900468
text: MATING PLUG

## 5207953-3
designator H?  (mechanical)
CONN SCREWLOCK FEMALE SHORT; Manufacturer: TE Connectivity AMP Connectors; Accessory Type: Jackscrew Socket; For Use With/Related Products: D-Sub Connectors Series AMPLIMITE HDE, HDF, HDP; Thread Size: 4-40 Socket, 4-40 Screw; Features: -; Length - Threaded Portion Below Head: 0.250" (6.40mm); ComponentLink1URL: http://www.te.com/commerce/DocumentDelivery/DDEController?Action=srchrtrv&DocNm=5207953&DocType=Customer+Drawing&DocLang=English; ComponentLink1Description: http://www.te.com/commerce/DocumentDelivery/DDEController?Action=srchrtrv&DocNm=5207953&DocType=Customer+Drawing&DocLang=English; Supplier 1: Digi-Key; Supplier Part Number 1: 5207953-3-ND; Manufacturer Part Number: 5207953-3; RoHS: RoHS Compliant; Category: Connectors, Interconnects; Stock 1: 18990; Pricing 1: 1=0.26, 25=0.2212, 100=0.191, 500=0.174, 1000=0.144, 2000=0.13, 5000=0.122, 10000=0.113 (USD)

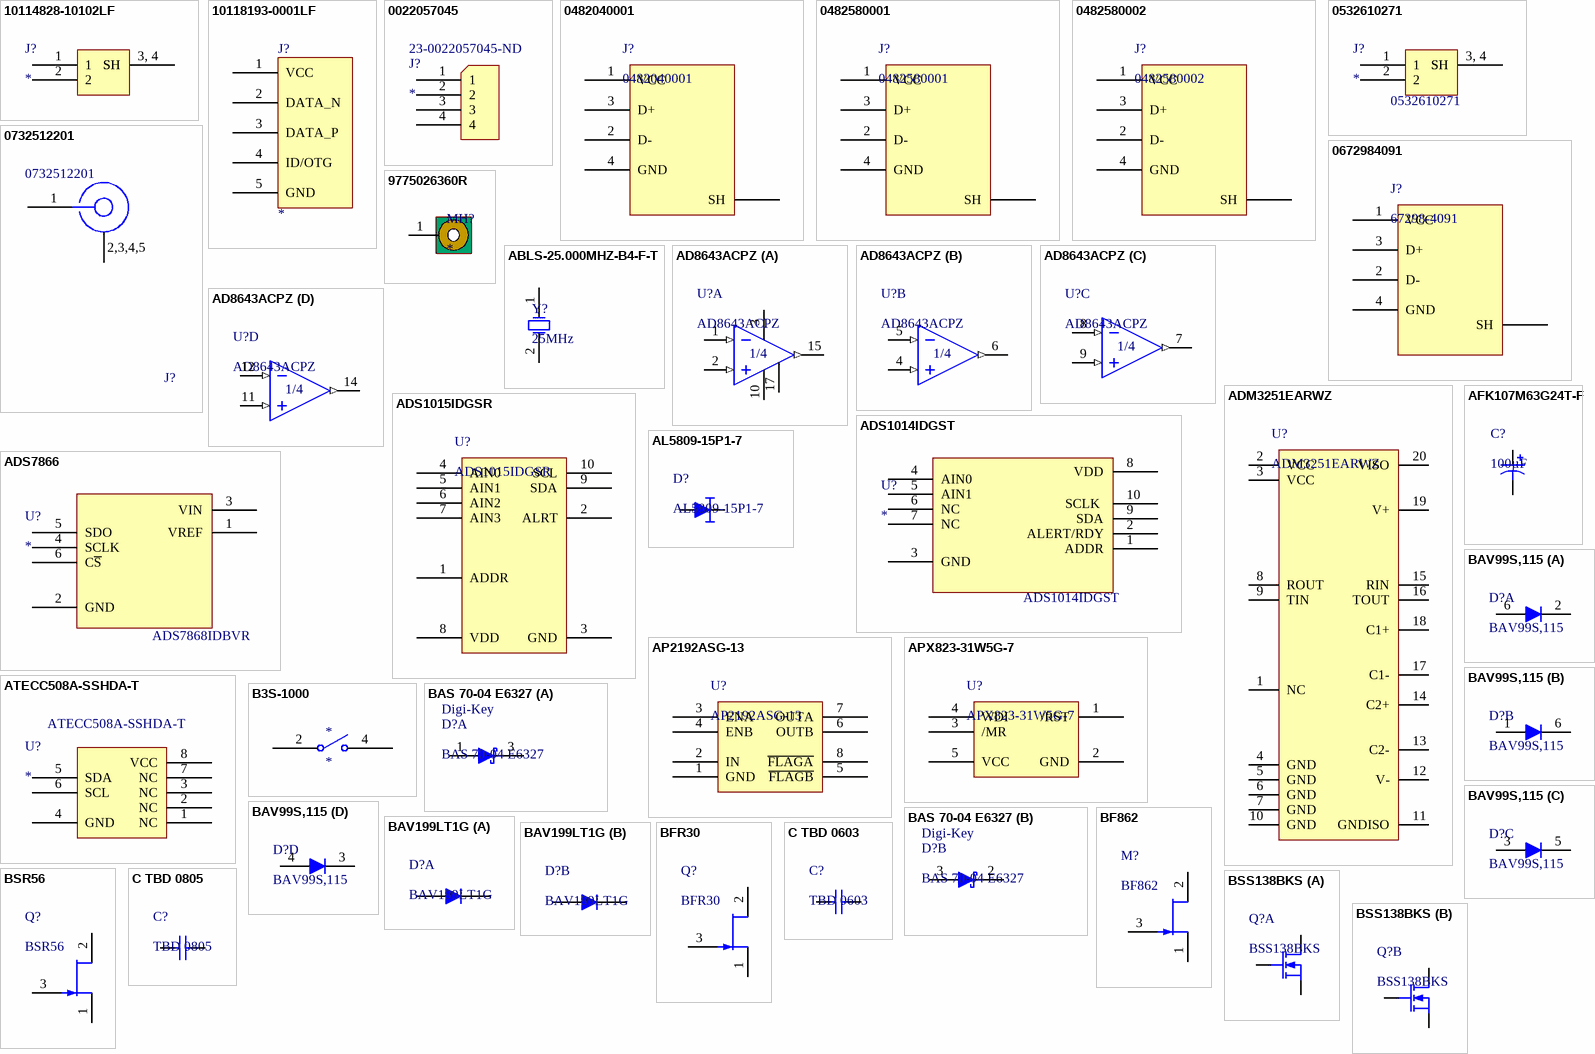
[diagram p1: symbols 10114828-10102LF to C TBD 0805]

## 10114828-10102LF
designator J?
CONN HEADER SMD 2POS 1.25MM - UPRIGHT; Manufacturer Part Number: 10114828-10102LF; Manufacturer: Amphenol FCI; Number of Contacts: 2; Current Rating: 1A; Voltage Rating: 125V; Contact Resistance: 20mR; Insulation Resistance: 100MR; Gender: Male; Connector Type: Male Pin; Wire/Cable Gauge: 32AWG; ComponentLink1URL: https://datasheet.ciiva.com/6813/532610671-sd-6813952.pdf?src-supplier=Digi-Key; ComponentLink1Description: https://datasheet.ciiva.com/6813/532610671-sd-6813952.pdf?src-supplier=Digi-Key; ComponentLink2URL: https://datasheet.ciiva.com/3117/0532610271-pcb-headers-3117602.pdf?src-supplier=Avnet; ComponentLink2Description: https://datasheet.ciiva.com/3117/0532610271-pcb-headers-3117602.pdf?src-supplier=Avnet; ComponentLink3URL: https://datasheet.ciiva.com/6832/532610271-sd-6832412.pdf?src-supplier=Digi-Key; ComponentLink3Description: https://datasheet.ciiva.com/6832/532610271-sd-6832412.pdf?src-supplier=Digi-Key; ComponentLink4URL: https://datasheet.ciiva.com/6832/532610271-sd-6832431.pdf?src-supplier=Digi-Key; ComponentLink4Description: https://datasheet.ciiva.com/6832/532610271-sd-6832431.pdf?src-supplier=Digi-Key; ComponentLink5URL: https://datasheet.ciiva.com/16498/0532610271-pcb-headers-16498111.pdf?src-supplier=Avnet+Asia; ComponentLink5Description: https://datasheet.ciiva.com/16498/0532610271-pcb-headers-16498111.pdf?src-supplier=Avnet+Asia; Supplier 1: Digi-Key; Stock 1: 62479; Pricing 1: 1=0.34000, 10=0.32200, 100=0.22530, 500=0.19312 (USD); RoHS: Yes; Mount: Surface Mount; Contact Plating: Tin; Contact Material: Copper Alloy,Bronze; Color: Natural; Housing Color: Natural; Housing Material: Thermoplastic; Min Operating Temperature: -40°C; Max Operating Temperature: 105°C; Number of Rows: 1; Termination: Solder; Package Quantity: 1000; Packaging: Tape and Reel; Max Current Rating: 1A; Number of Positions: 2; Max Voltage Rating (AC): 125V; Orientation: Straight; Max Voltage Rating (DC): 125V; Length: 7.25mm; Pitch: 1.25mm; Depth: 3.7mm; Contact Mating Length: 0.089inch; Radiation Hardening: No; REACH SVHC: No SVHC; Lead Free: Lead Free; ComponentLink6URL: https://datasheet.ciiva.com/8046/1581882-8046337.pdf?src-supplier=Element14; ComponentLink6Description: https://datasheet.ciiva.com/8046/1581882-8046337.pdf?src-supplier=Element14; ComponentLink7URL: https://datasheet.ciiva.com/10147/10114828-10147079.pdf?src-supplier=Avnet; ComponentLink7Description: https://datasheet.ciiva.com/10147/10114828-10147079.pdf?src-supplier=Avnet; ComponentLink8URL: https://datasheet.ciiva.com/14156/125-wtb-datasheet-14156077.pdf?src-supplier=Distrelec; ComponentLink8Description: https://datasheet.ciiva.com/14156/125-wtb-datasheet-14156077.pdf?src-supplier=Distrelec; ComponentLink9URL: https://datasheet.ciiva.com/739/10114828-739070.pdf?src-supplier=Digi-Key; ComponentLink9Description: https://datasheet.ciiva.com/739/10114828-739070.pdf?src-supplier=Digi-Key; Supplier Part Number 1: 609-4387-1-ND
footprint 10114828-10102LF (CONN HEADER SMD 2POS 1.25MM - UPRIGHT)
pins: 1, 2, 3 SH, 4 SH
text: 3, 4